# EAGLE library part 615008143521 (library Wurth_Connectors_WR-MJ)
WR-MJ Modular Jack Horizontal Half Shielded 8P8C Tab Down General Information Operating Temperature:-40 up to +85 °C Compliance:RoHS Electrical Properties Working Voltage: 120 V (AC) Withstanding Voltage:1000V (AC) Contact Resistance:20mΩ RISO:500 MΩ Material Properties Insulator MateriaL:PBT Insulator Flammability Rating:UL94 V-0 Color:Black Contact Material:Copper Alloy Contact Plating:Selective Gold Contact Type:Stamped Shielding Material:Bronze Shielding Plating:Nickel Packaging Properties Packaging:Tray <https://www.we-online.com/catalog/media/o33132v209%20Family_WR-MJ_615008143521.jpg> Details see: https://www.we-online.com/catalog/en/MJ_HORIZONTAL_HALF_SHIELDED_8P8C_TAB_DOWN/ Updated by Yingchun,Shan 2020-01-03 2020 (C) Würth Elektronik
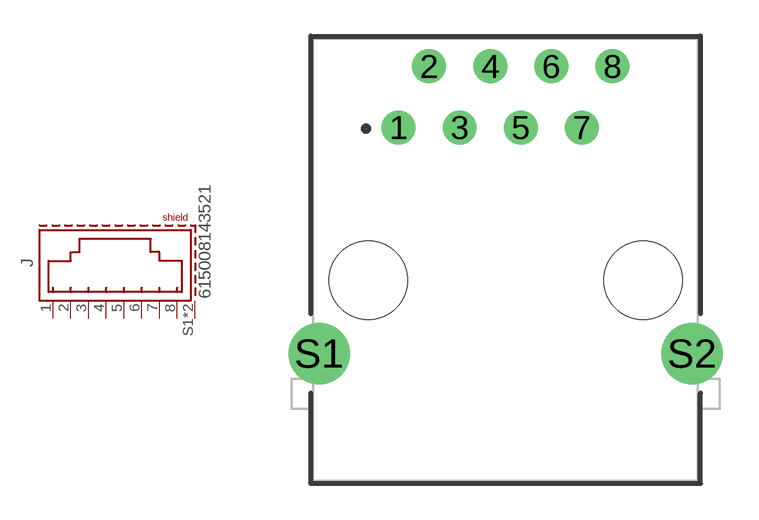
[diagram p18: symbol with the pads of 615008143521; footprint 615008143521]

Designator prefix J

## 615008143521 (DATASHEET-URL: https://www.we-online.com/redexpert/spec/615008143521?ae; MOUNT: THT; PART-NUMBER: 615008143521; TYPE: Horizontal; VALUE: 615008143521; XPXC: 8P8C)  [615008143521]
1  8  pas
2  7  pas
3  6  pas
4  5  pas
5  4  pas
6  3  pas
7  2  pas
8  1  pas
S1  SHIELD  pas
S2  SHIELD  pas

## Footprint 615008143521 (pad centres in mm)
WR-MJ Modular Jack Horizontal Half Shielded 8P8C Tab Down , 8 Pins
drill 0.9: 1 -4.445,5.5; 2 -3.175,8.04; 3 -1.905,5.5; 4 -0.635,8.04; 5 0.635,5.5; 6 1.905,8.04; 7 3.175,5.5; 8 4.445,8.04
drill 1.7: S1 -7.75,-3.9; S2 7.75,-3.9
hole 3.25 at -5.715,-0.85
hole 3.25 at 5.715,-0.85